# Altium footprint library СТАБИЛИЗАТ-MM.PcbLib: 21 footprints (part 2 of 2)
Each footprint in its own frame and in the unit in brackets; x right, y up, seen from the top. Pads: shape width x height; smd on the part's side, far side on the other; paste and mask are expansions set on the pad; w line width, h text height; cw(c..) or ccw(c..) is an arc to the next point about the centre after c.
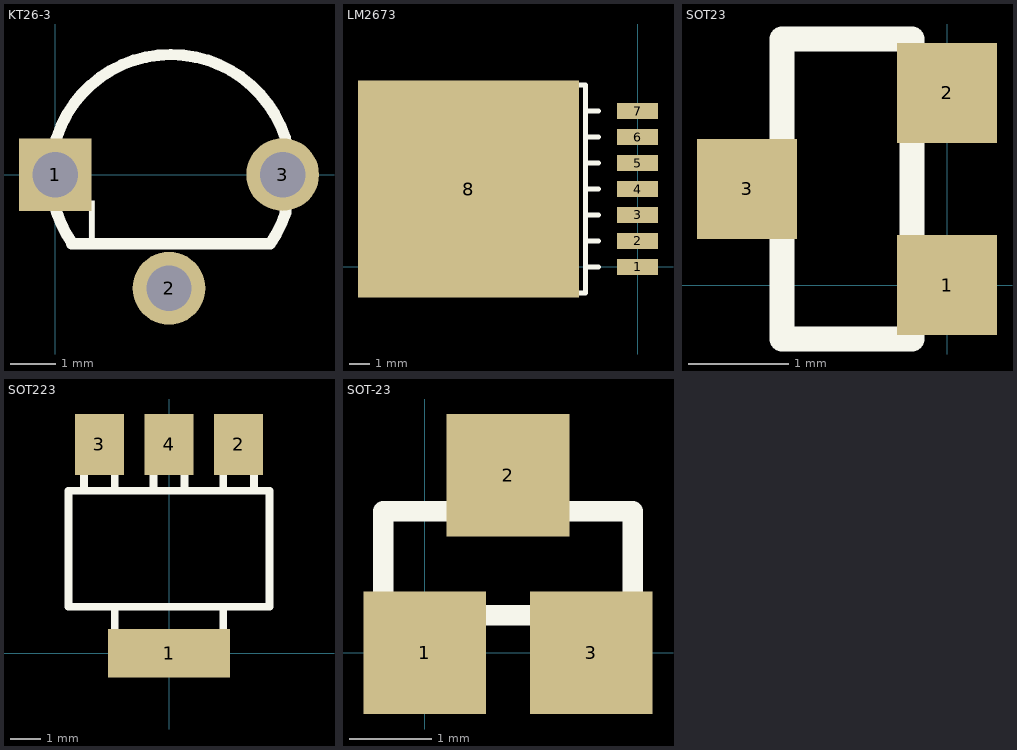
[diagram p1: the footprints below, top view; thin cyan lines are the x and y axes]

## KT26-3 [mm]
pads (3):
  rect 1.6x1.6 hole 1: 1(0,0)
  round 1.6 hole 1: 2(2.5,-2.5) 3(5,0)
Top Overlay:
  lines w0.025: 2.515,2.667 2.54,2.667
  lines w0.25: 0.356,-1.524 4.724,-1.524 ccw(c2.54,0) 5.075,-0.819 ; 0.375,-1.516 cw(c2.54,0) 0.027,-0.817 cw(c2.438,0) 0.027,0.816 cw(c2.54,0) 5.055,0.812 cw(c2.54,0) 5.055,-0.812
  text "1" at 0.368,-1.537 h0.95

## LM2673 [mm]
pads (8):
  rect 2x0.8 smd: 1(0,0) 2(0,1.27) 3(0,2.54) 4(0,3.81) 5(0,5.08) 6(0,6.35) 7(0,7.62)
  rect 10.8x10.6 smd: 8(-8.255,3.81)
Top Overlay:
  circle w0.254: c-3.81,0 r0.635
  lines w0.254: -10.795,-1.27 -10.795,8.89 ; -2.54,0 -1.905,0 ; -2.54,1.27 -1.905,1.27 ; -2.54,2.54 -1.905,2.54 ; -2.54,3.81 -1.905,3.81 ; -2.54,5.08 -1.905,5.08 ; -2.54,6.35 -1.905,6.35 ; -2.54,7.62 -1.905,7.62 ; -13.335,0 -12.7,-1.27 -2.54,-1.27 -2.54,8.89 -12.7,8.89 -13.335,7.62 -13.335,0

## SOT23 [mm]
pads (3):
  rect 1x1 smd: 1(0,0) 2(0,1.92) 3(-2,0.961)
Top Overlay:
  lines w0.25: -1.65,-0.54 -1.65,2.46 -0.35,2.46 -0.35,-0.54 -1.65,-0.54

## SOT223 [mm]
pads (4):
  rect 4x1.6 smd: 1(0,0)
  rect 1.6x2 smd: 2(2.286,6.858) 3(-2.286,6.858) 4(0,6.858)
Top Overlay:
  lines w0.25: -2.794,5.334 -2.794,6.096 ; -1.778,0.762 -1.778,1.524 ; -1.778,5.334 -1.778,6.096 ; -0.508,5.334 -0.508,6.096 ; 0.508,5.334 0.508,6.096 ; 1.778,0.762 1.778,1.524 ; 1.778,5.334 1.778,5.588 1.778,6.096 ; 2.794,5.334 2.794,6.096 ; -3.302,1.524 3.302,1.524 3.302,2.286 3.302,3.302 3.302,4.572 3.302,5.334 -3.302,5.334 -3.302,1.524

## SOT-23 [mm]
pads (3):
  rect 1.5x1.5 smd: 1(0,0) 2(1.017,2.166) 3(2.032,0)
Top Overlay:
  lines w0.25: -0.508,0.711 -0.508,1.727 0.254,1.727 ; 0.762,0.457 1.27,0.457 ; 1.778,1.727 2.54,1.727 2.54,0.711